# EAGLE library part STM32F303_BREAKOUT (library shack)
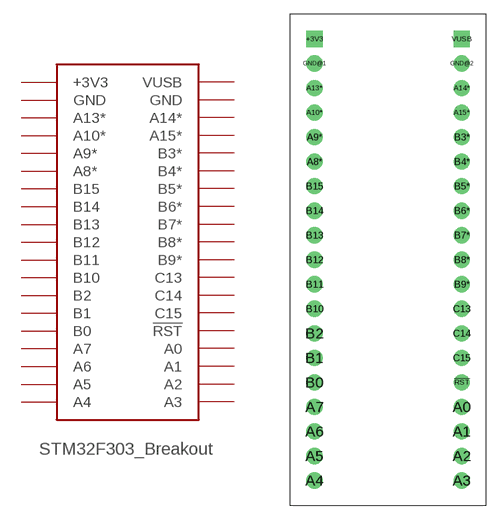
[diagram p12: symbol with the pads of STM32_BREAKOUT; footprint STM32_BREAKOUT]

Designator prefix -

## STM32F303_BREAKOUT  [STM32_BREAKOUT]
!RST  !RST
+3V3  +3V3
A0  A0
A1  A1
A2  A2
A3  A3
A4  A4
A5  A5
A6  A6
A7  A7
A8*  A8*
A9*  A9*
A10*  A10*
A13*  A13*
A14*  A14*
A15*  A15*
B0  B0
B1  B1
B2  B2
B3*  B3*
B4*  B4*
B5*  B5*
B6*  B6*
B7*  B7*
B8*  B8*
B9*  B9*
B10  B10
B11  B11
B12  B12
B13  B13
B14  B14
B15  B15
C13  C13
C14  C14
C15  C15
GND@1  GND
GND@2  GND
VUSB  VUSB

## Footprint STM32_BREAKOUT (pad centres in mm)
drill 0.8 pad 1.676: !RST 7.62,-12.7; A0 7.62,-15.24; A1 7.62,-17.78; A2 7.62,-20.32; A3 7.62,-22.86; A4 -7.62,-22.86; A5 -7.62,-20.32; A6 -7.62,-17.78; A7 -7.62,-15.24; A8* -7.62,10.16; A9* -7.62,12.7; A10* -7.62,15.24; A13* -7.62,17.78; A14* 7.62,17.78; A15* 7.62,15.24; B0 -7.62,-12.7; B1 -7.62,-10.16; B2 -7.62,-7.62; B3* 7.62,12.7; B4* 7.62,10.16; B5* 7.62,7.62; B6* 7.62,5.08; B7* 7.62,2.54; B8* 7.62,0; B9* 7.62,-2.54; B10 -7.62,-5.08; B11 -7.62,-2.54; B12 -7.62,0; B13 -7.62,2.54; B14 -7.62,5.08; B15 -7.62,7.62; C13 7.62,-5.08; C14 7.62,-7.62; C15 7.62,-10.16; GND@1 -7.62,20.32; GND@2 7.62,20.32
drill 0.8 pad 1.676 square: +3V3 -7.62,22.86; VUSB 7.62,22.86